# EAGLE library part MPT0.5/9-2.54 (library house)
Pheonix Contact Micro-Pitch Terminal Block
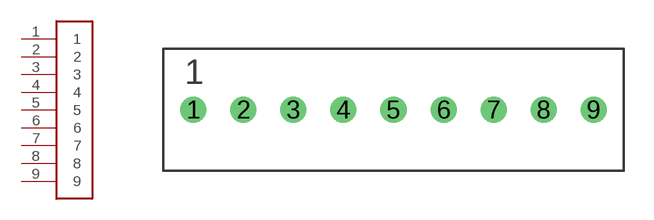
[diagram p3: symbol with the pads of MPT0.5/9-2.54; footprint MPT0.5/9-2.54]

Designator prefix -

## MPT0.5/9-2.54"  [MPT0.5/9-2.54]
1  1
2  2
3  3
4  4
5  5
6  6
7  7
8  8
9  9

## Footprint MPT0.5/9-2.54 (pad centres in mm)
drill 0.813: 1 -10.16,0; 2 -7.62,0; 3 -5.08,0; 4 -2.54,0; 5 0,0; 6 2.54,0; 7 5.08,0; 8 7.62,0; 9 10.16,0